# Altium footprint library SOIC127P794X525-8.PcbLib: 1 footprints
Each footprint in its own frame and in the unit in brackets; x right, y up, seen from the top. Pads: shape width x height; smd on the part's side, far side on the other; paste and mask are expansions set on the pad; w line width, h text height; cw(c..) or ccw(c..) is an arc to the next point about the centre after c.
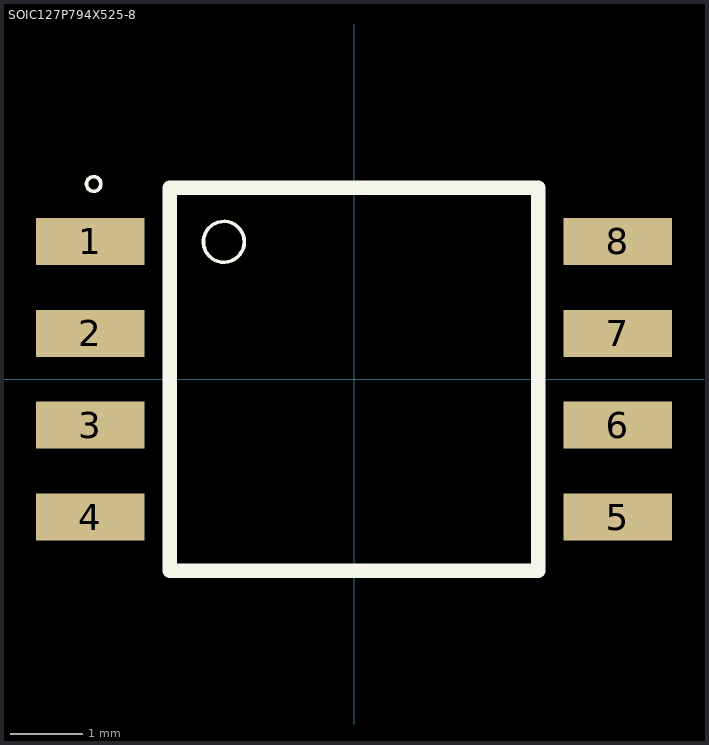
[diagram p0: the footprint, top view; thin cyan lines are the x and y axes]

## SOIC127P794X525-8 [mm] "Footprint is named wrong, should be SOIC127P + Nominal Lead Length X Height - Pin #"
pads (8):
  rect 1.5x0.65 smd: 1(-3.65,1.905) 2(-3.65,0.635) 3(-3.65,-0.635) 4(-3.65,-1.905) 5(3.65,-1.905) 6(3.65,-0.635) 7(3.65,0.635) 8(3.65,1.905)
Top Overlay:
  circle w0.05: c-3.6,2.7 r0.1
  circle w0.05: c-1.8,1.9 r0.283
  lines w0.2: -2.55,-2.65 -2.55,2.65 2.55,2.65 2.55,-2.65 -2.55,-2.65